# Altium footprint library LSR SIFLEX02-R2 U.FL.PCBLIB: 1 footprints
Each footprint in its own frame and in the unit in brackets; x right, y up, seen from the top. Pads: shape width x height; smd on the part's side, far side on the other; paste and mask are expansions set on the pad; w line width, h text height; cw(c..) or ccw(c..) is an arc to the next point about the centre after c.
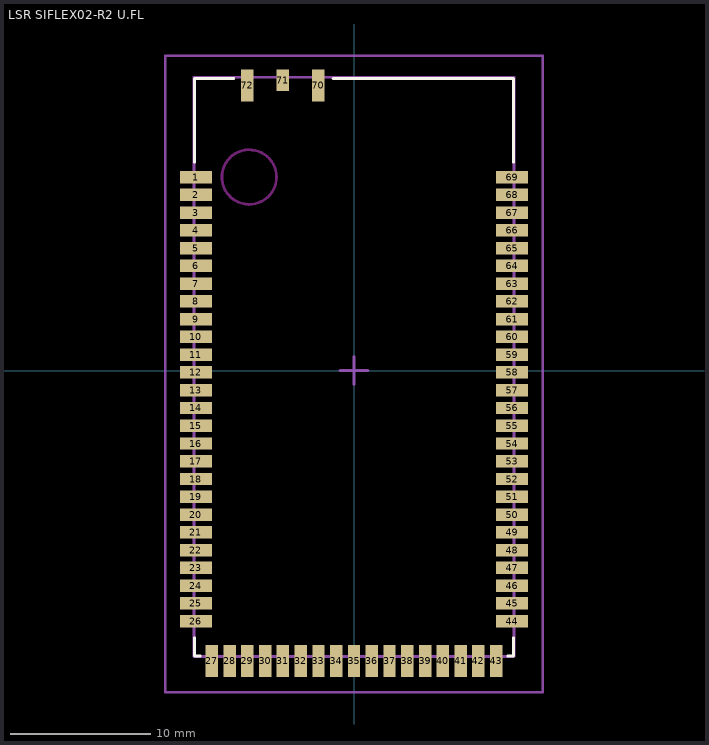
[diagram p0: the footprint, top view; thin cyan lines are the x and y axes]

## LSR SIFLEX02-R2 U.FL [mil]
height 200.79
pads (72):
  rect 90x35 smd: 1(-445,544.51) 2(-445,494.51) 3(-445,444.51) 4(-445,394.51) 5(-445,344.51) 6(-445,294.51) 7(-445,244.51) 8(-445,194.51) 9(-445,144.51) 10(-445,94.51) 11(-445,44.51) 12(-445,-5.49) 13(-445,-55.49) 14(-445,-105.49) 15(-445,-155.49) 16(-445,-205.49) 17(-445,-255.49) 18(-445,-305.49) 19(-445,-355.49) 20(-445,-405.49) 21(-445,-455.49) 22(-445,-505.49) 23(-445,-555.49) 24(-445,-605.49) 25(-445,-655.49) 26(-445,-705.49) 44(445,-705.49) 45(445,-655.49) 46(445,-605.49) 47(445,-555.49) 48(445,-505.49) 49(445,-455.49) 50(445,-405.49) 51(445,-355.49) 52(445,-305.49) 53(445,-255.49) 54(445,-205.49) 55(445,-155.49) 56(445,-105.49) 57(445,-55.49) 58(445,-5.49) 59(445,44.51) 60(445,94.51) 61(445,144.51) 62(445,194.51) 63(445,244.51) 64(445,294.51) 65(445,344.51) 66(445,394.51) 67(445,444.51) 68(445,494.51) 69(445,544.51)
  rect 35x90 smd: 27(-400,-817.49) 28(-350,-817.49) 29(-300,-817.49) 30(-250,-817.49) 31(-200,-817.49) 32(-150,-817.49) 33(-100,-817.49) 34(-50,-817.49) 35(0,-817.49) 36(50,-817.49) 37(100,-817.49) 38(150,-817.49) 39(200,-817.49) 40(250,-817.49) 41(300,-817.49) 42(350,-817.49) 43(400,-817.49) 70(-100.5,802.51) 72(-300.5,802.49)
  rect 35x60 smd: 71(-200.5,817.49)
Top Overlay:
  lines w7.87: -448.82,-752.51 -448.82,-803.69 -433.07,-803.69 ; -448.82,586.07 -448.82,822.29 -338.58,822.29 ; -59.06,822.29 448.82,822.29 448.82,586.07 ; 433.07,-803.69 448.82,-803.69 448.82,-752.51
Keep-Out Layer:
  circle w7.87: c-295,544.51 r76.87
Mechanical 1:
  lines w7.87: -450,-804.71 450,-804.71 450,825.29 -450,825.29 -450,-804.71
Mechanical 15:
  lines w7.87: -39.37,0 39.37,0 ; 0,-39.37 0,39.37 ; -531.5,-905.51 531.5,-905.51 531.5,885.83 -531.5,885.83 -531.5,-905.51
3D body "LSR SIFlex02-R2 450-0016-R1.STEP": height 176.7, standoff -0.5, extent -450,-804.71 450,825.29